# Altium footprint library DIOD.PcbLib: 1 footprints
Each footprint in its own frame and in the unit in brackets; x right, y up, seen from the top. Pads: shape width x height; smd on the part's side, far side on the other; paste and mask are expansions set on the pad; w line width, h text height; cw(c..) or ccw(c..) is an arc to the next point about the centre after c.
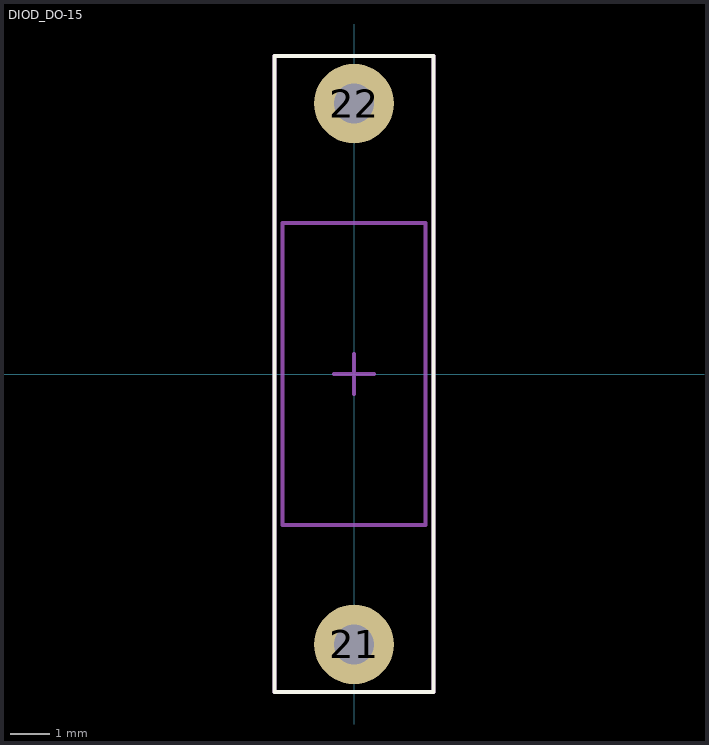
[diagram p0: the footprint, top view; thin cyan lines are the x and y axes]

## DIOD_DO-15 [mm]
pads (2):
  round 2 hole 1: 21(0,-6.8) 22(0,6.8)
Top Overlay:
  lines w0.1: -2,-8 -2,8 2,8 2,-8 0,-8 -2,-8
Top Assy:
  lines w0.1: -1.8,-3.8 1.8,-3.8 1.8,3.8 -1.8,3.8 -1.8,-3.8
Border:
  lines w0.1: -0.508,0 0.508,0 ; 0,-0.508 0,0.508 ; -2,-8 2,-8 ; -2,-8 -2,8 2,8 2,-8 ; -2,-8 2,-8
3D body "DIOD_DO-15.step": height 3.8, standoff 0.2, extent -1.8,-3.8 1.8,3.8